# EAGLE library part ESP-01 (library MTS-OTR_Custom)
ESP-01 Wifi Module The First PCB of the ESP8266 Family of Boards, Integrated Microcontroller with Wifi Built-in.
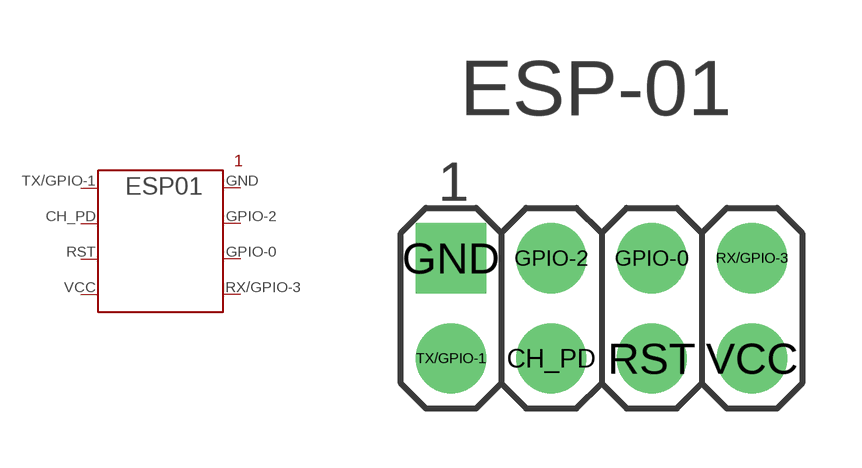
[diagram p28: symbol with the pads of ESP-01; footprint ESP-01]

Designator prefix -

## ESP-01  [ESP-01]
CH_PD  CH_PD  pas
GND  GND  pas
GPIO-0  GPIO-0  pas
GPIO-2  GPIO-2  pas
RST  RST  pas
RX/GPIO-3  RX  pas
TX/GPIO-1  TX  pas
VCC  VCC  pas

## Footprint ESP-01 (pad centres in mm)
drill 0.8 pad 1.778: CH_PD -1.27,-10.16; GPIO-0 1.27,-7.62; GPIO-2 -1.27,-7.62; RST 1.27,-10.16; RX/GPIO-3 3.81,-7.62; TX/GPIO-1 -3.81,-10.16; VCC 3.81,-10.16
drill 0.8 pad 1.778 square: GND -3.81,-7.62